# Altium footprint library Connector Footprints.PcbLib: 89 footprints (part 6 of 6)
Each footprint in its own frame and in the unit in brackets; x right, y up, seen from the top. Pads: shape width x height; smd on the part's side, far side on the other; paste and mask are expansions set on the pad; w line width, h text height; cw(c..) or ccw(c..) is an arc to the next point about the centre after c.
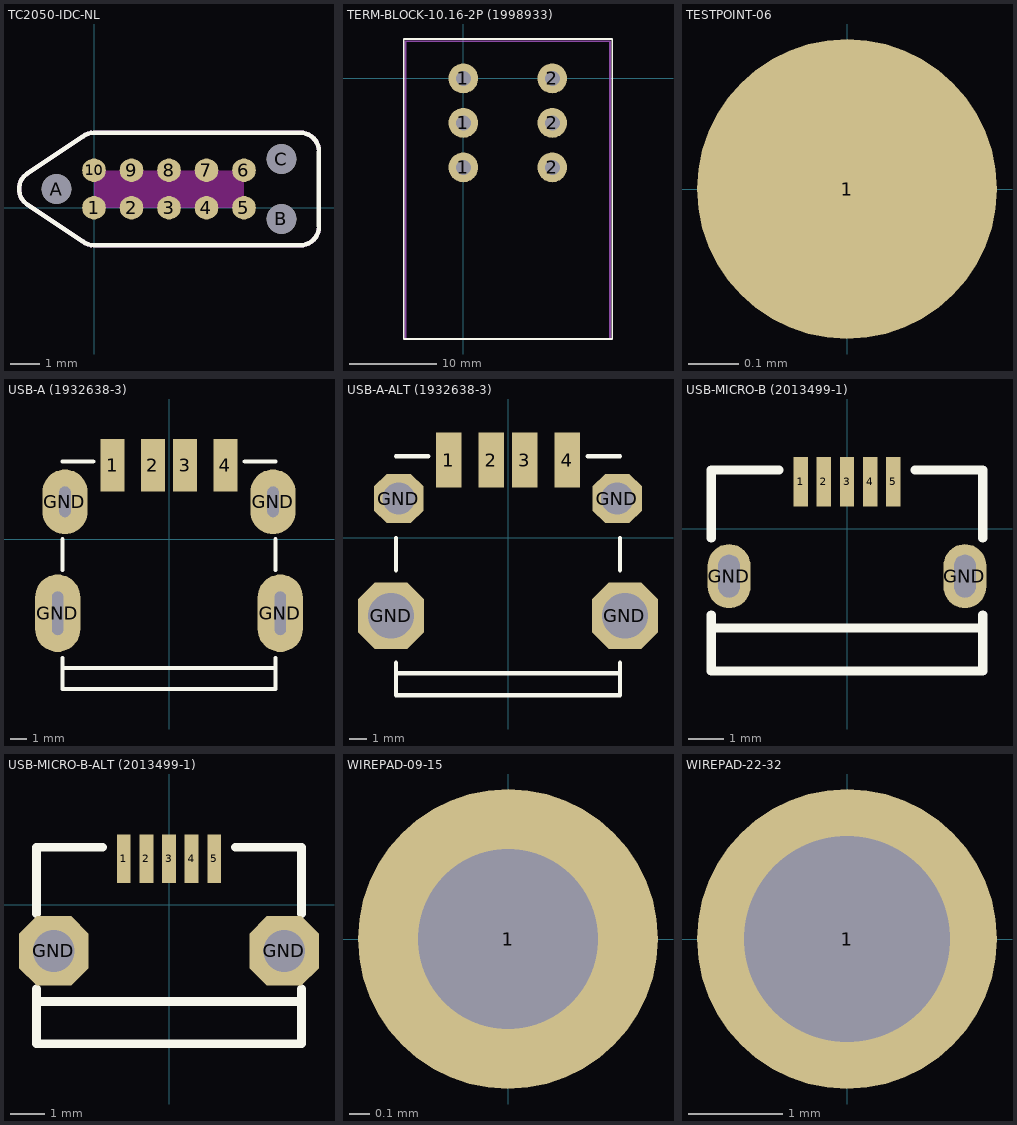
[diagram p5: the footprints below, top view; thin cyan lines are the x and y axes]

## TC2050-IDC-NL [mm] "Tag-Connect 10-Pin Header no Legs"
pads (13):
  round 0.8 smd paste-0.9: 1(0,0) 2(1.27,0) 3(2.54,0) 4(3.81,0) 5(5.08,0) 6(5.08,1.27) 7(3.81,1.27) 8(2.54,1.27) 9(1.27,1.27) 10(0,1.27)
  round 1 hole 1 paste-1.1: A(-1.27,0.635) B(6.35,-0.381) C(6.35,1.651)
Top Layer keep-out:
  rectangle: 0,0 5.08,1.27
Top Overlay:
  lines w0.152: -2.286,0.127 cw(c-1.905,0.635) -2.286,1.143 -0.381,2.413 cw(c0,1.905) 0,2.54 6.985,2.54 cw(c6.985,1.905) 7.62,1.905 7.62,-0.635 cw(c6.985,-0.635) 6.985,-1.27 0,-1.27 cw(c0,-0.635) -0.381,-1.143 -2.286,0.127
Mechanical 13:
  lines w0.152: 7.62,-0.635 cw(c6.985,-0.635) 6.985,-1.27 0,-1.27 cw(c0,-0.635) -0.381,-1.143 -2.286,0.127 cw(c-1.905,0.635) -2.286,1.143 -0.381,2.413 cw(c0,1.905) 0,2.54 6.985,2.54 cw(c6.985,1.905) 7.62,1.905

## TERM-BLOCK-10.16-2P (1998933) [mm] "Pluggable Terminal, 2-Leads, Pitch 10.16mm, Through-Hole"
height 134
pads (6):
  round 3.4 hole 1.7 paste+0: 1(0,-10.16) 1(0,-5.08) 1(0,0) 2(10.16,-10.16) 2(10.16,-5.08) 2(10.16,0)
Top Overlay:
  lines w0.2: -6.8,-29.76 -6.8,4.5 17,4.5 17,-29.76 -6.8,-29.76
Mechanical 13:
  lines w0.2: -6.6,-29.76 -6.6,4.24 16.76,4.24 16.76,-29.76 -6.6,-29.76
3D body "Phoenix 1998933_03.stp": height 13.92, standoff -3.58, extent -6.6,-29.76 16.76,4.24

## TESTPOINT-06 [mm] "Test Point; SMD Pad; 0.6mm"
pads (1):
  round 0.6 smd: 1(0,0)

## USB-A (1932638-3) [mm] "USB - A USB 2.0 Receptacle Connector 4 Position Surface Mount, Right Angle, Horizontal"
height 7.05
pads (8):
  rect 1.5x3.25 smd: 1(-3.5,4.59) 2(-1,4.59) 3(1,4.59) 4(3.5,4.59)
  oval 2.8x4.8 hole 0.7 slot 2.7 at 90 deg: GND(-6.9,-4.59) GND(6.9,-4.59)
  oval 2.8x4 hole 0.7 slot 1.9 at 90 deg: GND(-6.45,2.32) GND(6.45,2.32)
Top Overlay:
  lines w0.254: -6.604,-7.99 6.604,-7.99 ; -6.604,-7.366 -6.604,-9.29 6.604,-9.29 6.604,-7.366 ; -6.604,-1.905 -6.604,0 ; -6.604,4.826 -4.699,4.826 ; 4.699,4.826 6.604,4.826 ; 6.604,-1.905 6.604,0
3D body "c-1932638-3-c-3d.stp": height 7.75, standoff -1.21, extent -7.315,-9.284 7.315,5.656

## USB-A-ALT (1932638-3) [mm] "Round Holes; USB - A USB 2.0 Receptacle Connector 4 Position Surface Mount, Right Angle, Horizontal"
height 7.05
pads (8):
  rect 1.5x3.25 smd: 1(-3.5,4.59) 2(-1,4.59) 3(1,4.59) 4(3.5,4.59)
  oct 3.9x3.9 hole 2.7: GND(-6.9,-4.59) GND(6.9,-4.59)
  oct 2.9x2.9 hole 1.9: GND(-6.45,2.32) GND(6.45,2.32)
Top Overlay:
  lines w0.254: -6.604,-7.99 6.604,-7.99 ; -6.604,-7.366 -6.604,-9.29 6.604,-9.29 6.604,-7.366 ; -6.604,-1.905 -6.604,0 ; -6.604,4.826 -4.699,4.826 ; 4.699,4.826 6.604,4.826 ; 6.604,-1.905 6.604,0
3D body "c-1932638-3-c-3d.stp": height 7.75, standoff -1.21, extent -7.315,-9.284 7.315,5.656

## USB-MICRO-B (2013499-1) [mm] "USB - micro B USB 2.0 Receptacle Connector 5 Position Surface Mount, Right Angle, Horizontal"
height 3
pads (7):
  rect 0.4x1.4 smd: 1(-1.3,1.325) 2(-0.65,1.325) 3(0,1.325) 4(0.65,1.325) 5(1.3,1.325)
  oval 1.2x1.8 hole 0.6 slot 1.2 at 90 deg: GND(-3.31,-1.325) GND(3.31,-1.325)
Top Overlay:
  lines w0.254: -3.81,-2.775 3.81,-2.775 ; -3.81,-2.413 -3.81,-3.992 3.81,-3.992 3.81,-2.413 ; -3.81,-0.254 -3.81,1.651 -1.905,1.651 ; 1.905,1.651 3.81,1.651 3.81,-0.254
3D body "c-2013499-1-e-3d.stp": height 2.79, standoff -0.78, extent -4,-4.035 4,1.565

## USB-MICRO-B-ALT (2013499-1) [mm] "Round Holes; USB - micro B USB 2.0 Receptacle Connector 5 Position Surface Mount, Right Angle, Horizontal"
height 3
pads (7):
  rect 0.4x1.4 smd: 1(-1.3,1.325) 2(-0.65,1.325) 3(0,1.325) 4(0.65,1.325) 5(1.3,1.325)
  oct 2x2 hole 1.2: GND(-3.31,-1.325) GND(3.31,-1.325)
Top Overlay:
  lines w0.254: -3.81,-2.775 3.81,-2.775 ; -3.81,-2.413 -3.81,-3.992 3.81,-3.992 3.81,-2.413 ; -3.81,-0.254 -3.81,1.651 -1.905,1.651 ; 1.905,1.651 3.81,1.651 3.81,-0.254
3D body "c-2013499-1-e-3d.stp": height 2.79, standoff -0.78, extent -4,-4.035 4,1.565

## WIREPAD-09-15 [mm] "Connector; Through Hole Pad; 0.9mm Inner, 1.5mm Outer"
pads (1):
  round 1.5 hole 0.9: 1(0,0)

## WIREPAD-22-32 [mm] "Connector; Through Hole Pad; 2.2mm Inner, 3.2mm Outer"
pads (1):
  round 3.2 hole 2.2: 1(0,0)